# Altium schematic symbol library HAND-MULTILAYER.SchLib: 4 symbols
Pins are listed as number, name and electrical type; pins without a type are passive.

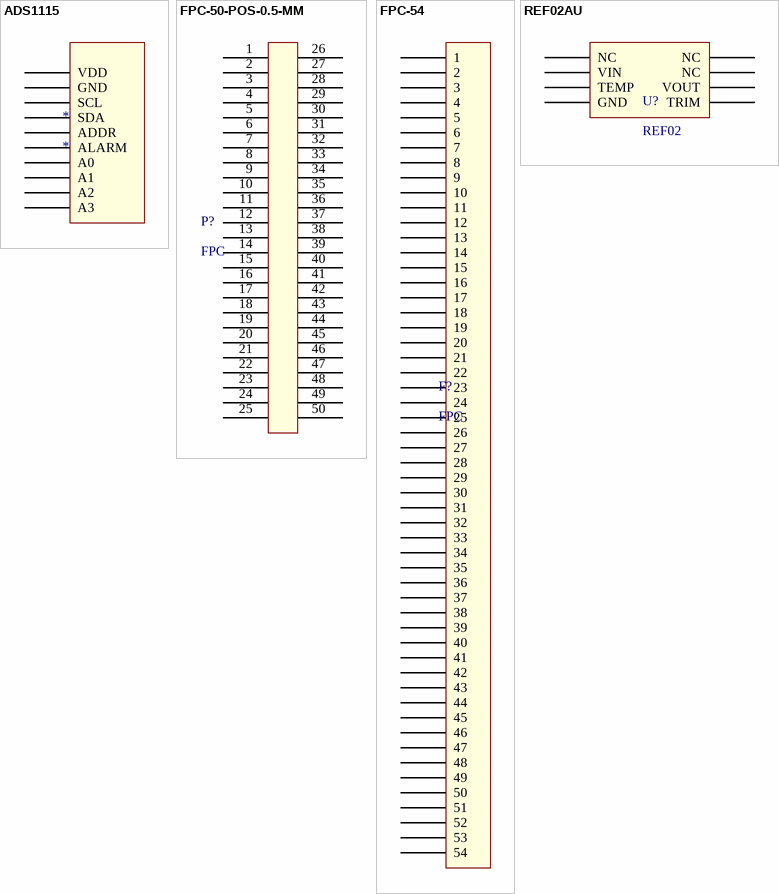
[diagram p0: symbols ADS1115 to REF02AU]

## ADS1115
designator *
footprint HDR_1X10
pins: 1 VDD, 2 GND, 3 SCL, 4 SDA, 5 ADDR, 6 ALARM, 7 A0, 8 A1, 9 A2, 10 A3

## FPC-50-POS-0.5-MM
designator P?, comment FPC
footprint FPC-50-POS-0.5-MM
pins: 1, 2, 3, 4, 5, 6, 7, 8, 9, 10, 11, 12, 13, 14, 15, 16, 17, 18, 19, 20, 21, 22, 23, 24, 25, 26, 27, 28, 29, 30, 31, 32, 33, 34, 35, 36, 37, 38, 39, 40, 41, 42, 43, 44, 45, 46, 47, 48, 49, 50

## FPC-54
designator F?, comment FPC
pins: 1, 2, 3, 4, 5, 6, 7, 8, 9, 10, 11, 12, 13, 14, 15, 16, 17, 18, 19, 20, 21, 22, 23, 24, 25, 26, 27, 28, 29, 30, 31, 32, 33, 34, 35, 36, 37, 38, 39, 40, 41, 42, 43, 44, 45, 46, 47, 48, 49, 50, 51, 52, 53, 54

## REF02AU
designator U?, comment REF02
footprint SO8
pins: 1 NC, 2 VIN, 3 TEMP, 4 GND, 5 TRIM, 6 VOUT, 7 NC, 8 NC